# Altium footprint library CN_HDR1x10_AMPMODU.PcbLib: 1 footprints
Each footprint in its own frame and in the unit in brackets; x right, y up, seen from the top. Pads: shape width x height; smd on the part's side, far side on the other; paste and mask are expansions set on the pad; w line width, h text height; cw(c..) or ccw(c..) is an arc to the next point about the centre after c.
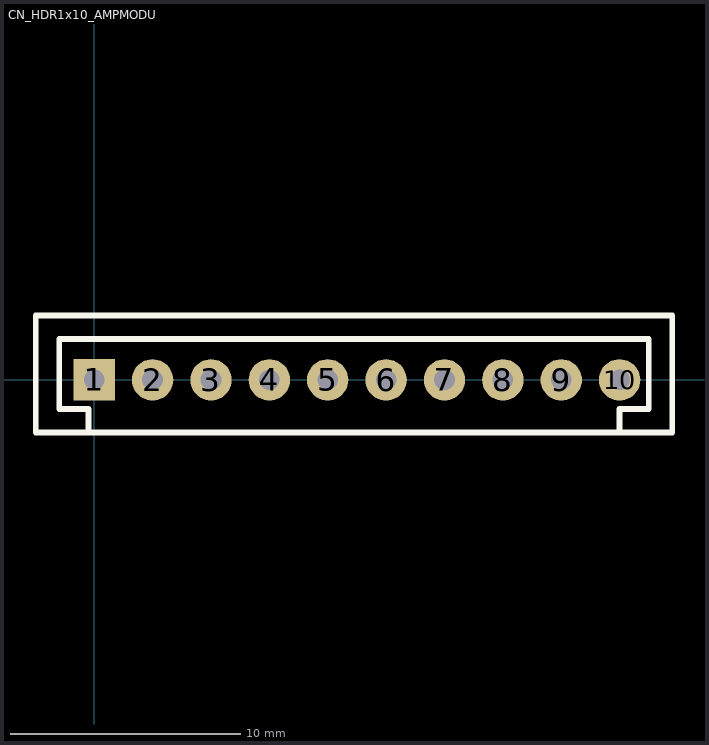
[diagram p0: the footprint, top view; thin cyan lines are the x and y axes]

## CN_HDR1x10_AMPMODU [mm] "TE CONNECTIVITY / AMP - 280374-2"
pads (10):
  rect 1.8x1.8 hole 0.9: 1(0,0)
  round 1.8 hole 0.9: 2(2.54,0) 3(5.08,0) 4(7.62,0) 5(10.16,0) 6(12.7,0) 7(15.24,0) 8(17.78,0) 9(20.32,0) 10(22.86,0)
Top Overlay:
  lines w0.254: -0.254,-2.286 -0.254,-1.27 -1.524,-1.27 -1.524,1.778 24.13,1.778 24.13,-1.27 22.86,-1.27 22.86,-2.286 ; -2.54,-2.286 -2.54,2.794 25.146,2.794 25.146,-2.286 -2.54,-2.286
3D body: height 12.6, standoff -2.87, extent -2.415,-2.21 25.275,2.79